# Altium footprint library 2MS1T2B4M2QES.PcbLib: 1 footprints
Each footprint in its own frame and in the unit in brackets; x right, y up, seen from the top. Pads: shape width x height; smd on the part's side, far side on the other; paste and mask are expansions set on the pad; w line width, h text height; cw(c..) or ccw(c..) is an arc to the next point about the centre after c.
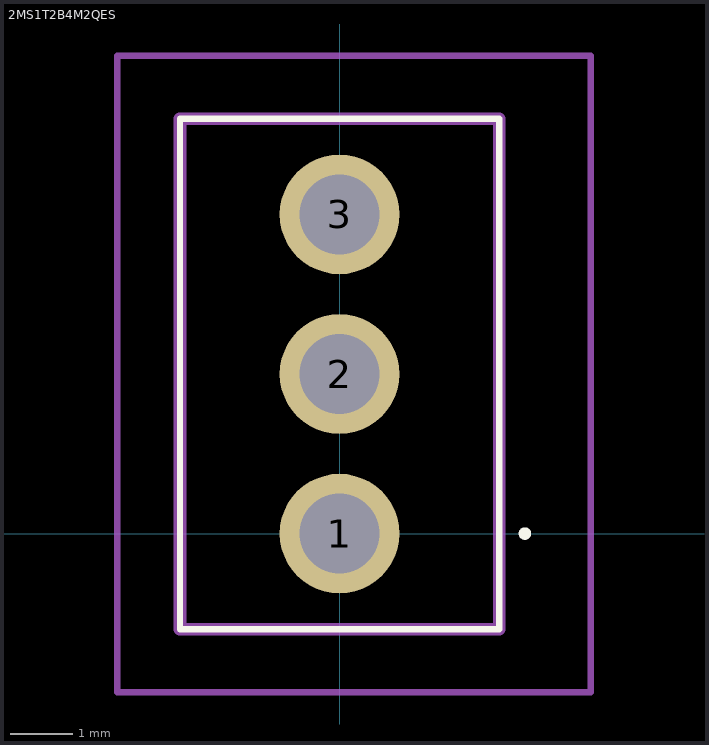
[diagram p0: the footprint, top view; thin cyan lines are the x and y axes]

## 2MS1T2B4M2QES [mil]
pads (3):
  round 75 hole 50: 1(0,0) 2(0,100) 3(0,200)
Top Overlay:
  lines w3.94: 114.17,0 114.17,0 ; 114.17,0 cw(c116.14,0) 118.11,0 ; 114.17,0 ccw(c116.14,0) 118.11,0 ; 118.11,0 118.11,0 ; -100,-60.04 100,-60.04 100,260.04 -100,260.04 -100,-60.04
Mechanical 15:
  lines w7.87: -100,-60.04 100,-60.04 100,260.04 -100,260.04 -100,-60.04
Mechanical 20:
  lines w3.94: -139.37,-99.41 157.48,-99.41 157.48,299.41 -139.37,299.41 -139.37,-99.41